# Altium schematic symbol library LDM-13488MI.SchLib: 1 symbol
Pins are listed as number, name and electrical type; pins without a type are passive.

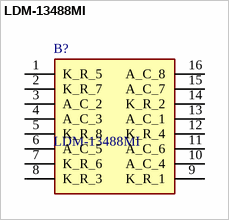
[diagram p0: symbol LDM-13488MI]

## LDM-13488MI
designator B?
LED MATRIX 8X8 1.3" 630NM RED CC; Manufacturer_Name: Lumex; Geometry.Height: 8.25mm; Mouser Part Number: 696-LDM-13488MI; Mouser Price/Stock: https://www.mouser.co.uk/ProductDetail/Lumex/LDM-13488MI?qs=yJopvU1l2pYScS1UPG0ScQ%3D%3D; Manufacturer_Part_Number: LDM-13488MI; Datasheet Link: https://pdf1.alldatasheet.com/datasheet-pdf/view/599219/LUMEX/LDM-13488MI.html
footprint LDM13488MI
pins: 1 K_R_5, 2 K_R_7, 3 A_C_2, 4 A_C_3, 5 K_R_8, 6 A_C_5, 7 K_R_6, 8 K_R_3, 9 K_R_1, 10 A_C_4, 11 A_C_6, 12 K_R_4, 13 A_C_1, 14 K_R_2, 15 A_C_7, 16 A_C_8